# Altium schematic symbol library TM4C1294KCPDTI3.SchLib: 1 symbol
Pins are listed as number, name and electrical type; pins without a type are passive.

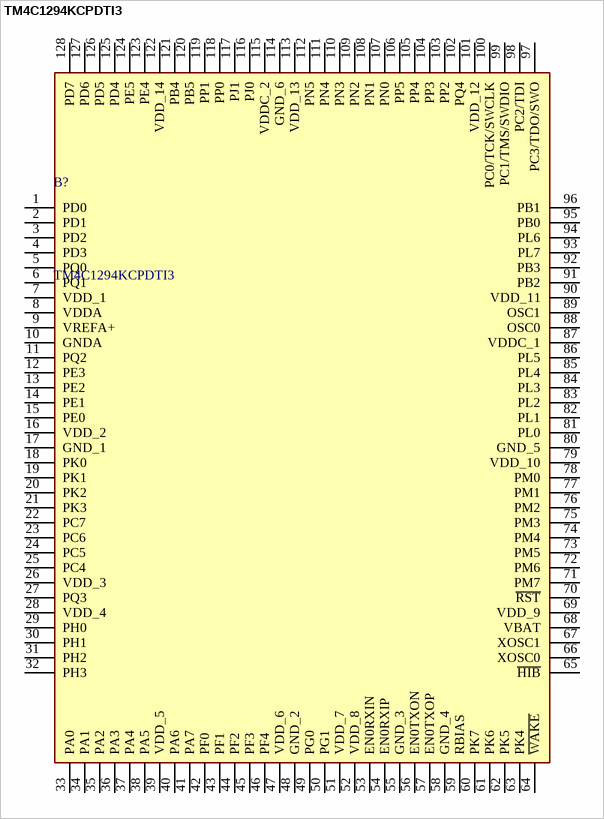
[diagram p0: symbol TM4C1294KCPDTI3]

## TM4C1294KCPDTI3
designator B?
IoT enabled High performance 32-bit ARM Cortex-M4F based MCU; Manufacturer_Name: Texas Instruments; Geometry.Height: 1.2mm; Manufacturer_Part_Number: TM4C1294KCPDTI3; Mouser Part Number: 595-TM4C1294KCPDTI3; Mouser Price/Stock: https://www.mouser.co.uk/ProductDetail/Texas-Instruments/TM4C1294KCPDTI3?qs=NRIcxvoDUtdSWKDr717T9Q%3D%3D; Arrow Part Number: TM4C1294KCPDTI3; Arrow Price/Stock: https://www.arrow.com/en/products/tm4c1294kcpdti3/texas-instruments?utm_currency=USD&region=nac; Datasheet Link: http://www.ti.com/lit/gpn/TM4C1294KCPDT
footprint QFP40P1600X1600X120-128N
pins: 1 PD0, 2 PD1, 3 PD2, 4 PD3, 5 PQ0, 6 PQ1, 7 VDD_1, 8 VDDA, 9 VREFA+, 10 GNDA, 11 PQ2, 12 PE3, 13 PE2, 14 PE1, 15 PE0, 16 VDD_2, 17 GND_1, 18 PK0, 19 PK1, 20 PK2, 21 PK3, 22 PC7, 23 PC6, 24 PC5, 25 PC4, 26 VDD_3, 27 PQ3, 28 VDD_4, 29 PH0, 30 PH1, 31 PH2, 32 PH3, 33 PA0, 34 PA1, 35 PA2, 36 PA3, 37 PA4, 38 PA5, 39 VDD_5, 40 PA6, 41 PA7, 42 PF0, 43 PF1, 44 PF2, 45 PF3, 46 PF4, 47 VDD_6, 48 GND_2, 49 PG0, 50 PG1, 51 VDD_7, 52 VDD_8, 53 EN0RXIN, 54 EN0RXIP, 55 GND_3, 56 EN0TXON, 57 EN0TXOP, 58 GND_4, 59 RBIAS, 60 PK7, 61 PK6, 62 PK5, 63 PK4, 64 ~{WAKE}, 65 ~{HIB}, 66 XOSC0, 67 XOSC1, 68 VBAT, 69 VDD_9, 70 ~{RST}, 71 PM7, 72 PM6, 73 PM5, 74 PM4, 75 PM3, 76 PM2, 77 PM1, 78 PM0, 79 VDD_10, 80 GND_5, 81 PL0, 82 PL1, 83 PL2, 84 PL3, 85 PL4, 86 PL5, 87 VDDC_1, 88 OSC0, 89 OSC1, 90 VDD_11, 91 PB2, 92 PB3, 93 PL7, 94 PL6, 95 PB0, 96 PB1, 97 PC3/TDO/SWO, 98 PC2/TDI, 99 PC1/TMS/SWDIO, 100 PC0/TCK/SWCLK, 101 VDD_12, 102 PQ4, 103 PP2, 104 PP3, 105 PP4, 106 PP5, 107 PN0, 108 PN1, 109 PN2, 110 PN3, 111 PN4, 112 PN5, 113 VDD_13, 114 GND_6, 115 VDDC_2, 116 PJ0, 117 PJ1, 118 PP0, 119 PP1, 120 PB5, 121 PB4, 122 VDD_14, 123 PE4, 124 PE5, 125 PD4, 126 PD5, 127 PD6, 128 PD7